# Altium integrated library ST-025.IntLib: 1 symbol
Pins are listed as number, name and electrical type; pins without a type are passive.

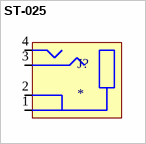
[diagram p0: symbol ST-025]

## ST-025
designator J?
Stereo jack 3.5mm
footprint ST-025
footprint ST-025
pins: 1, 2, 3, 4